# EAGLE library part NFET-DUAL (library parts_servo)
Generic Dual NFET
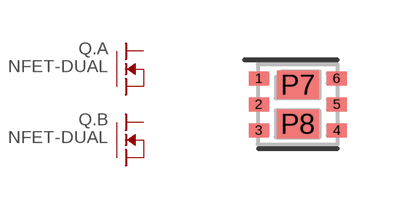
[diagram p2: symbol with the pads of DFN-6(2X2)+2EP(TRANSISTOR); footprint DFN-6(2X2)+2EP(TRANSISTOR)]

Designator prefix Q; gates .A=NFET .B=NFET

## NFET-DUAL-DFN-6(2X2)+2PADS  [DFN-6(2X2)+2EP(TRANSISTOR)]
1  .A:S  pas
2  .A:G  pas
3  .B:D  pas
4  .B:S  pas
5  .B:G  pas
6  .A:D  pas
P7  .A:D  pas
P8  .B:D  pas

## Footprint DFN-6(2X2)+2EP(TRANSISTOR) (pad centres in mm)
DFN-6 (2x2)mm with 2 interior pads (SOT1118), 0.65 mm typical thickness This package is used exclusively for dual transistors. I believe Fairchild calls it "MicroFet" (maybe slightly incompatible), NXP calls it DFN2020-6.
smd 0.5 x 0.35: 1 -0.975,0.65; 2 -0.975,0; 3 -0.975,-0.65; 4 0.975,-0.65; 5 0.975,0; 6 0.975,0.65
smd 1.05 x 0.72: P7 0,0.49; P8 0,-0.49